# Altium footprint library Header_254.PcbLib: 78 footprints (part 8 of 9)
Each footprint in its own frame and in the unit in brackets; x right, y up, seen from the top. Pads: shape width x height; smd on the part's side, far side on the other; paste and mask are expansions set on the pad; w line width, h text height; cw(c..) or ccw(c..) is an arc to the next point about the centre after c.
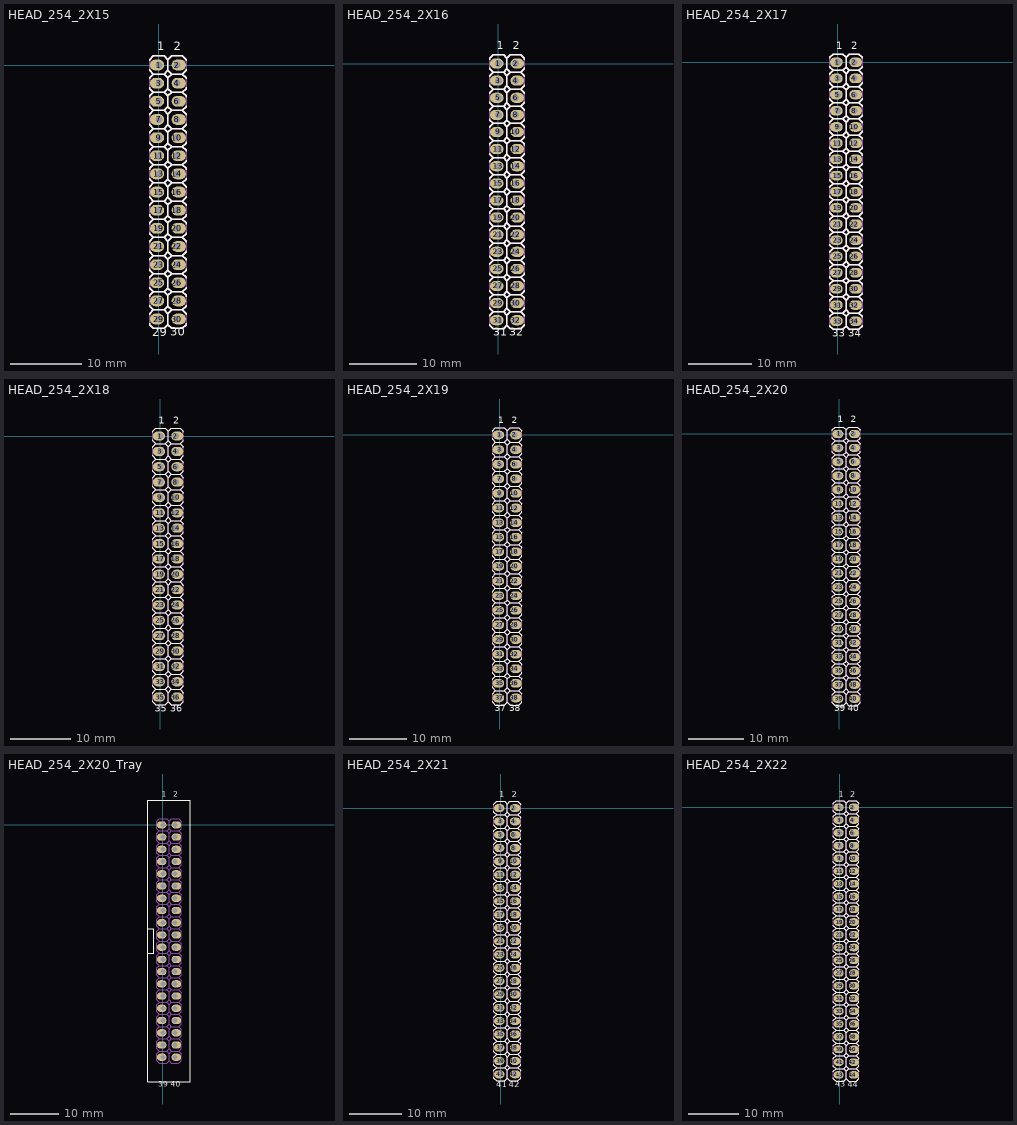
[diagram p7: the footprints below, top view; thin cyan lines are the x and y axes]

## HEAD_254_2X15 [mm] "Header 2.54mm 2x15"
pads (30):
  oval 2x1.5 hole 1 copper offset -0.25,0: 1(0,0) 3(0,-2.54) 5(0,-5.08) 7(0,-7.62) 9(0,-10.16) 11(0,-12.7) 13(0,-15.24) 15(0,-17.78) 17(0,-20.32) 19(0,-22.86) 21(0,-25.4) 23(0,-27.94) 25(0,-30.48) 27(0,-33.02) 29(0,-35.56)
  oval 2x1.5 hole 1 copper offset 0.25,0: 2(2.54,0) 4(2.54,-2.54) 6(2.54,-5.08) 8(2.54,-7.62) 10(2.54,-10.16) 12(2.54,-12.7) 14(2.54,-15.24) 16(2.54,-17.78) 18(2.54,-20.32) 20(2.54,-22.86) 22(2.54,-25.4) 24(2.54,-27.94) 26(2.54,-30.48) 28(2.54,-33.02) 30(2.54,-35.56)
Top Overlay:
  drawing of 227 lines, arcs and shapes, not listed
  text "30" at 1.626,-38.35 h2
  text "29" at -0.93,-38.351 h2
  text "2" at 2.115,1.644 h2
  text "1" at -0.236,1.644 h2
Bottom Overlay:
  text "30" at 3.454,-38.096 h2
  text "29" at 0.93,-38.097 h2
  text "2" at 2.965,0.882 h2
  text "1" at 0.236,0.882 h2
Top Assembly:
  drawing of 197 lines, arcs and shapes, not listed
3D body: height 2, standoff 0, extent -1.27,-36.83 1.27,-34.29
3D body: height 10, standoff -3, extent -0.35,-35.91 0.35,-35.21
3D body: height 2, standoff 0, extent 1.27,-36.83 3.81,-34.29
3D body: height 10, standoff -3, extent 2.19,-35.91 2.89,-35.21
3D body: height 2, standoff 0, extent -1.27,-34.29 1.27,-31.75
3D body: height 10, standoff -3, extent -0.35,-33.37 0.35,-32.67
3D body: height 2, standoff 0, extent 1.27,-34.29 3.81,-31.75
3D body: height 10, standoff -3, extent 2.19,-33.37 2.89,-32.67
3D body: height 2, standoff 0, extent -1.27,-31.75 1.27,-29.21
3D body: height 10, standoff -3, extent -0.35,-30.83 0.35,-30.13
3D body: height 2, standoff 0, extent 1.27,-31.75 3.81,-29.21
3D body: height 10, standoff -3, extent 2.19,-30.83 2.89,-30.13
3D body: height 2, standoff 0, extent -1.27,-29.21 1.27,-26.67
3D body: height 10, standoff -3, extent -0.35,-28.29 0.35,-27.59
3D body: height 2, standoff 0, extent 1.27,-29.21 3.81,-26.67
3D body: height 10, standoff -3, extent 2.19,-28.29 2.89,-27.59
3D body: height 2, standoff 0, extent -1.27,-26.67 1.27,-24.13
3D body: height 10, standoff -3, extent -0.35,-25.75 0.35,-25.05
3D body: height 2, standoff 0, extent 1.27,-26.67 3.81,-24.13
3D body: height 10, standoff -3, extent 2.19,-25.75 2.89,-25.05
3D body: height 2, standoff 0, extent -1.27,-24.13 1.27,-21.59
3D body: height 10, standoff -3, extent -0.35,-23.21 0.35,-22.51
3D body: height 2, standoff 0, extent 1.27,-24.13 3.81,-21.59
3D body: height 10, standoff -3, extent 2.19,-23.21 2.89,-22.51
3D body: height 2, standoff 0, extent -1.27,-21.59 1.27,-19.05
3D body: height 10, standoff -3, extent -0.35,-20.67 0.35,-19.97
3D body: height 2, standoff 0, extent 1.27,-21.59 3.81,-19.05
3D body: height 10, standoff -3, extent 2.19,-20.67 2.89,-19.97
3D body: height 2, standoff 0, extent -1.27,-19.05 1.27,-16.51
3D body: height 10, standoff -3, extent -0.35,-18.13 0.35,-17.43
3D body: height 2, standoff 0, extent 1.27,-19.05 3.81,-16.51
3D body: height 10, standoff -3, extent 2.19,-18.13 2.89,-17.43
3D body: height 2, standoff 0, extent -1.27,-16.51 1.27,-13.97
3D body: height 10, standoff -3, extent -0.35,-15.59 0.35,-14.89
3D body: height 2, standoff 0, extent 1.27,-16.51 3.81,-13.97
3D body: height 10, standoff -3, extent 2.19,-15.59 2.89,-14.89
3D body: height 2, standoff 0, extent -1.27,-13.97 1.27,-11.43
3D body: height 10, standoff -3, extent -0.35,-13.05 0.35,-12.35
3D body: height 2, standoff 0, extent 1.27,-13.97 3.81,-11.43
3D body: height 10, standoff -3, extent 2.19,-13.05 2.89,-12.35
3D body: height 2, standoff 0, extent -1.27,-11.43 1.27,-8.89
3D body: height 10, standoff -3, extent -0.35,-10.51 0.35,-9.81
3D body: height 2, standoff 0, extent 1.27,-11.43 3.81,-8.89
3D body: height 10, standoff -3, extent 2.19,-10.51 2.89,-9.81
3D body: height 2, standoff 0, extent -1.27,-1.27 1.27,1.27
3D body: height 10, standoff -3, extent -0.35,-0.35 0.35,0.35
3D body: height 2, standoff 0, extent 1.27,-1.27 3.81,1.27
3D body: height 10, standoff -3, extent 2.19,-0.35 2.89,0.35
3D body: height 2, standoff 0, extent -1.27,-3.81 1.27,-1.27
3D body: height 10, standoff -3, extent -0.35,-2.89 0.35,-2.19
3D body: height 2, standoff 0, extent 1.27,-3.81 3.81,-1.27
3D body: height 10, standoff -3, extent 2.19,-2.89 2.89,-2.19
3D body: height 2, standoff 0, extent -1.27,-6.35 1.27,-3.81
3D body: height 10, standoff -3, extent -0.35,-5.43 0.35,-4.73
3D body: height 2, standoff 0, extent 1.27,-6.35 3.81,-3.81
3D body: height 10, standoff -3, extent 2.19,-5.43 2.89,-4.73
3D body: height 2, standoff 0, extent -1.27,-8.89 1.27,-6.35
3D body: height 10, standoff -3, extent -0.35,-7.97 0.35,-7.27
3D body: height 2, standoff 0, extent 1.27,-8.89 3.81,-6.35
3D body: height 10, standoff -3, extent 2.19,-7.97 2.89,-7.27

## HEAD_254_2X16 [mm] "Header 2.54mm 2x16"
pads (32):
  oval 2x1.5 hole 1 copper offset -0.25,0: 1(0,0) 3(0,-2.54) 5(0,-5.08) 7(0,-7.62) 9(0,-10.16) 11(0,-12.7) 13(0,-15.24) 15(0,-17.78) 17(0,-20.32) 19(0,-22.86) 21(0,-25.4) 23(0,-27.94) 25(0,-30.48) 27(0,-33.02) 29(0,-35.56) 31(0,-38.1)
  oval 2x1.5 hole 1 copper offset 0.25,0: 2(2.54,0) 4(2.54,-2.54) 6(2.54,-5.08) 8(2.54,-7.62) 10(2.54,-10.16) 12(2.54,-12.7) 14(2.54,-15.24) 16(2.54,-17.78) 18(2.54,-20.32) 20(2.54,-22.86) 22(2.54,-25.4) 24(2.54,-27.94) 26(2.54,-30.48) 28(2.54,-33.02) 30(2.54,-35.56) 32(2.54,-38.1)
Top Overlay:
  drawing of 242 lines, arcs and shapes, not listed
  text "32" at 1.63,-40.89 h2
  text "31" at -0.793,-40.89 h2
  text "2" at 2.115,1.644 h2
  text "1" at -0.236,1.644 h2
Bottom Overlay:
  text "32" at 3.45,-40.636 h2
  text "31" at 0.793,-40.636 h2
  text "2" at 2.965,0.882 h2
  text "1" at 0.236,0.882 h2
Top Assembly:
  drawing of 210 lines, arcs and shapes, not listed
3D body: height 2, standoff 0, extent -1.27,-39.37 1.27,-36.83
3D body: height 10, standoff -3, extent -0.35,-38.45 0.35,-37.75
3D body: height 2, standoff 0, extent 1.27,-39.37 3.81,-36.83
3D body: height 10, standoff -3, extent 2.19,-38.45 2.89,-37.75
3D body: height 2, standoff 0, extent -1.27,-36.83 1.27,-34.29
3D body: height 10, standoff -3, extent -0.35,-35.91 0.35,-35.21
3D body: height 2, standoff 0, extent 1.27,-36.83 3.81,-34.29
3D body: height 10, standoff -3, extent 2.19,-35.91 2.89,-35.21
3D body: height 2, standoff 0, extent -1.27,-34.29 1.27,-31.75
3D body: height 10, standoff -3, extent -0.35,-33.37 0.35,-32.67
3D body: height 2, standoff 0, extent 1.27,-34.29 3.81,-31.75
3D body: height 10, standoff -3, extent 2.19,-33.37 2.89,-32.67
3D body: height 2, standoff 0, extent -1.27,-31.75 1.27,-29.21
3D body: height 10, standoff -3, extent -0.35,-30.83 0.35,-30.13
3D body: height 2, standoff 0, extent 1.27,-31.75 3.81,-29.21
3D body: height 10, standoff -3, extent 2.19,-30.83 2.89,-30.13
3D body: height 2, standoff 0, extent -1.27,-29.21 1.27,-26.67
3D body: height 10, standoff -3, extent -0.35,-28.29 0.35,-27.59
3D body: height 2, standoff 0, extent 1.27,-29.21 3.81,-26.67
3D body: height 10, standoff -3, extent 2.19,-28.29 2.89,-27.59
3D body: height 2, standoff 0, extent -1.27,-26.67 1.27,-24.13
3D body: height 10, standoff -3, extent -0.35,-25.75 0.35,-25.05
3D body: height 2, standoff 0, extent 1.27,-26.67 3.81,-24.13
3D body: height 10, standoff -3, extent 2.19,-25.75 2.89,-25.05
3D body: height 2, standoff 0, extent -1.27,-24.13 1.27,-21.59
3D body: height 10, standoff -3, extent -0.35,-23.21 0.35,-22.51
3D body: height 2, standoff 0, extent 1.27,-24.13 3.81,-21.59
3D body: height 10, standoff -3, extent 2.19,-23.21 2.89,-22.51
3D body: height 2, standoff 0, extent -1.27,-21.59 1.27,-19.05
3D body: height 10, standoff -3, extent -0.35,-20.67 0.35,-19.97
3D body: height 2, standoff 0, extent 1.27,-21.59 3.81,-19.05
3D body: height 10, standoff -3, extent 2.19,-20.67 2.89,-19.97
3D body: height 2, standoff 0, extent -1.27,-19.05 1.27,-16.51
3D body: height 10, standoff -3, extent -0.35,-18.13 0.35,-17.43
3D body: height 2, standoff 0, extent 1.27,-19.05 3.81,-16.51
3D body: height 10, standoff -3, extent 2.19,-18.13 2.89,-17.43
3D body: height 2, standoff 0, extent -1.27,-16.51 1.27,-13.97
3D body: height 10, standoff -3, extent -0.35,-15.59 0.35,-14.89
3D body: height 2, standoff 0, extent 1.27,-16.51 3.81,-13.97
3D body: height 10, standoff -3, extent 2.19,-15.59 2.89,-14.89
3D body: height 2, standoff 0, extent -1.27,-13.97 1.27,-11.43
3D body: height 10, standoff -3, extent -0.35,-13.05 0.35,-12.35
3D body: height 2, standoff 0, extent 1.27,-13.97 3.81,-11.43
3D body: height 10, standoff -3, extent 2.19,-13.05 2.89,-12.35
3D body: height 2, standoff 0, extent -1.27,-11.43 1.27,-8.89
3D body: height 10, standoff -3, extent -0.35,-10.51 0.35,-9.81
3D body: height 2, standoff 0, extent 1.27,-11.43 3.81,-8.89
3D body: height 10, standoff -3, extent 2.19,-10.51 2.89,-9.81
3D body: height 2, standoff 0, extent -1.27,-1.27 1.27,1.27
3D body: height 10, standoff -3, extent -0.35,-0.35 0.35,0.35
3D body: height 2, standoff 0, extent 1.27,-1.27 3.81,1.27
3D body: height 10, standoff -3, extent 2.19,-0.35 2.89,0.35
3D body: height 2, standoff 0, extent -1.27,-3.81 1.27,-1.27
3D body: height 10, standoff -3, extent -0.35,-2.89 0.35,-2.19
3D body: height 2, standoff 0, extent 1.27,-3.81 3.81,-1.27
3D body: height 10, standoff -3, extent 2.19,-2.89 2.89,-2.19
3D body: height 2, standoff 0, extent -1.27,-6.35 1.27,-3.81
3D body: height 10, standoff -3, extent -0.35,-5.43 0.35,-4.73
3D body: height 2, standoff 0, extent 1.27,-6.35 3.81,-3.81
3D body: height 10, standoff -3, extent 2.19,-5.43 2.89,-4.73
3D body: height 2, standoff 0, extent -1.27,-8.89 1.27,-6.35
3D body: height 10, standoff -3, extent -0.35,-7.97 0.35,-7.27
3D body: height 2, standoff 0, extent 1.27,-8.89 3.81,-6.35
3D body: height 10, standoff -3, extent 2.19,-7.97 2.89,-7.27

## HEAD_254_2X17 [mm] "Header 2.54mm 2x17"
pads (34):
  oval 2x1.5 hole 1 copper offset -0.25,0: 1(0,0) 3(0,-2.54) 5(0,-5.08) 7(0,-7.62) 9(0,-10.16) 11(0,-12.7) 13(0,-15.24) 15(0,-17.78) 17(0,-20.32) 19(0,-22.86) 21(0,-25.4) 23(0,-27.94) 25(0,-30.48) 27(0,-33.02) 29(0,-35.56) 31(0,-38.1) 33(0,-40.64)
  oval 2x1.5 hole 1 copper offset 0.25,0: 2(2.54,0) 4(2.54,-2.54) 6(2.54,-5.08) 8(2.54,-7.62) 10(2.54,-10.16) 12(2.54,-12.7) 14(2.54,-15.24) 16(2.54,-17.78) 18(2.54,-20.32) 20(2.54,-22.86) 22(2.54,-25.4) 24(2.54,-27.94) 26(2.54,-30.48) 28(2.54,-33.02) 30(2.54,-35.56) 32(2.54,-38.1) 34(2.54,-40.64)
Top Overlay:
  drawing of 257 lines, arcs and shapes, not listed
  text "34" at 1.626,-43.43 h2
  text "33" at -0.916,-43.43 h2
  text "2" at 2.115,1.644 h2
  text "1" at -0.236,1.644 h2
Bottom Overlay:
  text "34" at 3.454,-43.176 h2
  text "33" at 0.916,-43.176 h2
  text "2" at 2.965,0.882 h2
  text "1" at 0.236,0.882 h2
Top Assembly:
  drawing of 223 lines, arcs and shapes, not listed
3D body: height 2, standoff 0, extent -1.27,-41.91 1.27,-39.37
3D body: height 10, standoff -3, extent -0.35,-40.99 0.35,-40.29
3D body: height 2, standoff 0, extent 1.27,-41.91 3.81,-39.37
3D body: height 10, standoff -3, extent 2.19,-40.99 2.89,-40.29
3D body: height 2, standoff 0, extent -1.27,-39.37 1.27,-36.83
3D body: height 10, standoff -3, extent -0.35,-38.45 0.35,-37.75
3D body: height 2, standoff 0, extent 1.27,-39.37 3.81,-36.83
3D body: height 10, standoff -3, extent 2.19,-38.45 2.89,-37.75
3D body: height 2, standoff 0, extent -1.27,-36.83 1.27,-34.29
3D body: height 10, standoff -3, extent -0.35,-35.91 0.35,-35.21
3D body: height 2, standoff 0, extent 1.27,-36.83 3.81,-34.29
3D body: height 10, standoff -3, extent 2.19,-35.91 2.89,-35.21
3D body: height 2, standoff 0, extent -1.27,-34.29 1.27,-31.75
3D body: height 10, standoff -3, extent -0.35,-33.37 0.35,-32.67
3D body: height 2, standoff 0, extent 1.27,-34.29 3.81,-31.75
3D body: height 10, standoff -3, extent 2.19,-33.37 2.89,-32.67
3D body: height 2, standoff 0, extent -1.27,-31.75 1.27,-29.21
3D body: height 10, standoff -3, extent -0.35,-30.83 0.35,-30.13
3D body: height 2, standoff 0, extent 1.27,-31.75 3.81,-29.21
3D body: height 10, standoff -3, extent 2.19,-30.83 2.89,-30.13
3D body: height 2, standoff 0, extent -1.27,-29.21 1.27,-26.67
3D body: height 10, standoff -3, extent -0.35,-28.29 0.35,-27.59
3D body: height 2, standoff 0, extent 1.27,-29.21 3.81,-26.67
3D body: height 10, standoff -3, extent 2.19,-28.29 2.89,-27.59
3D body: height 2, standoff 0, extent -1.27,-26.67 1.27,-24.13
3D body: height 10, standoff -3, extent -0.35,-25.75 0.35,-25.05
3D body: height 2, standoff 0, extent 1.27,-26.67 3.81,-24.13
3D body: height 10, standoff -3, extent 2.19,-25.75 2.89,-25.05
3D body: height 2, standoff 0, extent -1.27,-24.13 1.27,-21.59
3D body: height 10, standoff -3, extent -0.35,-23.21 0.35,-22.51
3D body: height 2, standoff 0, extent 1.27,-24.13 3.81,-21.59
3D body: height 10, standoff -3, extent 2.19,-23.21 2.89,-22.51
3D body: height 2, standoff 0, extent -1.27,-21.59 1.27,-19.05
3D body: height 10, standoff -3, extent -0.35,-20.67 0.35,-19.97
3D body: height 2, standoff 0, extent 1.27,-21.59 3.81,-19.05
3D body: height 10, standoff -3, extent 2.19,-20.67 2.89,-19.97
3D body: height 2, standoff 0, extent -1.27,-19.05 1.27,-16.51
3D body: height 10, standoff -3, extent -0.35,-18.13 0.35,-17.43
3D body: height 2, standoff 0, extent 1.27,-19.05 3.81,-16.51
3D body: height 10, standoff -3, extent 2.19,-18.13 2.89,-17.43
3D body: height 2, standoff 0, extent -1.27,-16.51 1.27,-13.97
3D body: height 10, standoff -3, extent -0.35,-15.59 0.35,-14.89
3D body: height 2, standoff 0, extent 1.27,-16.51 3.81,-13.97
3D body: height 10, standoff -3, extent 2.19,-15.59 2.89,-14.89
3D body: height 2, standoff 0, extent -1.27,-13.97 1.27,-11.43
3D body: height 10, standoff -3, extent -0.35,-13.05 0.35,-12.35
3D body: height 2, standoff 0, extent 1.27,-13.97 3.81,-11.43
3D body: height 10, standoff -3, extent 2.19,-13.05 2.89,-12.35
3D body: height 2, standoff 0, extent -1.27,-11.43 1.27,-8.89
3D body: height 10, standoff -3, extent -0.35,-10.51 0.35,-9.81
3D body: height 2, standoff 0, extent 1.27,-11.43 3.81,-8.89
3D body: height 10, standoff -3, extent 2.19,-10.51 2.89,-9.81
3D body: height 2, standoff 0, extent -1.27,-1.27 1.27,1.27
3D body: height 10, standoff -3, extent -0.35,-0.35 0.35,0.35
3D body: height 2, standoff 0, extent 1.27,-1.27 3.81,1.27
3D body: height 10, standoff -3, extent 2.19,-0.35 2.89,0.35
3D body: height 2, standoff 0, extent -1.27,-3.81 1.27,-1.27
3D body: height 10, standoff -3, extent -0.35,-2.89 0.35,-2.19
3D body: height 2, standoff 0, extent 1.27,-3.81 3.81,-1.27
3D body: height 10, standoff -3, extent 2.19,-2.89 2.89,-2.19
3D body: height 2, standoff 0, extent -1.27,-6.35 1.27,-3.81
3D body: height 10, standoff -3, extent -0.35,-5.43 0.35,-4.73
3D body: height 2, standoff 0, extent 1.27,-6.35 3.81,-3.81
3D body: height 10, standoff -3, extent 2.19,-5.43 2.89,-4.73
3D body: height 2, standoff 0, extent -1.27,-8.89 1.27,-6.35
3D body: height 10, standoff -3, extent -0.35,-7.97 0.35,-7.27
3D body: height 2, standoff 0, extent 1.27,-8.89 3.81,-6.35
3D body: height 10, standoff -3, extent 2.19,-7.97 2.89,-7.27

## HEAD_254_2X18 [mm] "Header 2.54mm 2x18"
pads (36):
  oval 2x1.5 hole 1 copper offset -0.25,0: 1(0,0) 3(0,-2.54) 5(0,-5.08) 7(0,-7.62) 9(0,-10.16) 11(0,-12.7) 13(0,-15.24) 15(0,-17.78) 17(0,-20.32) 19(0,-22.86) 21(0,-25.4) 23(0,-27.94) 25(0,-30.48) 27(0,-33.02) 29(0,-35.56) 31(0,-38.1) 33(0,-40.64) 35(0,-43.18)
  oval 2x1.5 hole 1 copper offset 0.25,0: 2(2.54,0) 4(2.54,-2.54) 6(2.54,-5.08) 8(2.54,-7.62) 10(2.54,-10.16) 12(2.54,-12.7) 14(2.54,-15.24) 16(2.54,-17.78) 18(2.54,-20.32) 20(2.54,-22.86) 22(2.54,-25.4) 24(2.54,-27.94) 26(2.54,-30.48) 28(2.54,-33.02) 30(2.54,-35.56) 32(2.54,-38.1) 34(2.54,-40.64) 36(2.54,-43.18)
Top Overlay:
  drawing of 272 lines, arcs and shapes, not listed
  text "1" at -0.236,1.644 h2
  text "2" at 2.115,1.644 h2
  text "35" at -0.921,-45.97 h2
  text "36" at 1.624,-45.97 h2
Bottom Overlay:
  text "1" at 0.236,0.882 h2
  text "2" at 2.965,0.882 h2
  text "35" at 0.921,-45.716 h2
  text "36" at 3.456,-45.716 h2
Top Assembly:
  drawing of 236 lines, arcs and shapes, not listed
3D body: height 10, standoff -3, extent 2.19,-7.97 2.89,-7.27
3D body: height 2, standoff 0, extent 1.27,-8.89 3.81,-6.35
3D body: height 10, standoff -3, extent -0.35,-7.97 0.35,-7.27
3D body: height 2, standoff 0, extent -1.27,-8.89 1.27,-6.35
3D body: height 10, standoff -3, extent 2.19,-5.43 2.89,-4.73
3D body: height 2, standoff 0, extent 1.27,-6.35 3.81,-3.81
3D body: height 10, standoff -3, extent -0.35,-5.43 0.35,-4.73
3D body: height 2, standoff 0, extent -1.27,-6.35 1.27,-3.81
3D body: height 10, standoff -3, extent 2.19,-2.89 2.89,-2.19
3D body: height 2, standoff 0, extent 1.27,-3.81 3.81,-1.27
3D body: height 10, standoff -3, extent -0.35,-2.89 0.35,-2.19
3D body: height 2, standoff 0, extent -1.27,-3.81 1.27,-1.27
3D body: height 10, standoff -3, extent 2.19,-0.35 2.89,0.35
3D body: height 2, standoff 0, extent 1.27,-1.27 3.81,1.27
3D body: height 10, standoff -3, extent -0.35,-0.35 0.35,0.35
3D body: height 2, standoff 0, extent -1.27,-1.27 1.27,1.27
3D body: height 10, standoff -3, extent 2.19,-10.51 2.89,-9.81
3D body: height 2, standoff 0, extent 1.27,-11.43 3.81,-8.89
3D body: height 10, standoff -3, extent -0.35,-10.51 0.35,-9.81
3D body: height 2, standoff 0, extent -1.27,-11.43 1.27,-8.89
3D body: height 10, standoff -3, extent 2.19,-13.05 2.89,-12.35
3D body: height 2, standoff 0, extent 1.27,-13.97 3.81,-11.43
3D body: height 10, standoff -3, extent -0.35,-13.05 0.35,-12.35
3D body: height 2, standoff 0, extent -1.27,-13.97 1.27,-11.43
3D body: height 10, standoff -3, extent 2.19,-15.59 2.89,-14.89
3D body: height 2, standoff 0, extent 1.27,-16.51 3.81,-13.97
3D body: height 10, standoff -3, extent -0.35,-15.59 0.35,-14.89
3D body: height 2, standoff 0, extent -1.27,-16.51 1.27,-13.97
3D body: height 10, standoff -3, extent 2.19,-18.13 2.89,-17.43
3D body: height 2, standoff 0, extent 1.27,-19.05 3.81,-16.51
3D body: height 10, standoff -3, extent -0.35,-18.13 0.35,-17.43
3D body: height 2, standoff 0, extent -1.27,-19.05 1.27,-16.51
3D body: height 10, standoff -3, extent 2.19,-20.67 2.89,-19.97
3D body: height 2, standoff 0, extent 1.27,-21.59 3.81,-19.05
3D body: height 10, standoff -3, extent -0.35,-20.67 0.35,-19.97
3D body: height 2, standoff 0, extent -1.27,-21.59 1.27,-19.05
3D body: height 10, standoff -3, extent 2.19,-23.21 2.89,-22.51
3D body: height 2, standoff 0, extent 1.27,-24.13 3.81,-21.59
3D body: height 10, standoff -3, extent -0.35,-23.21 0.35,-22.51
3D body: height 2, standoff 0, extent -1.27,-24.13 1.27,-21.59
3D body: height 10, standoff -3, extent 2.19,-25.75 2.89,-25.05
3D body: height 2, standoff 0, extent 1.27,-26.67 3.81,-24.13
3D body: height 10, standoff -3, extent -0.35,-25.75 0.35,-25.05
3D body: height 2, standoff 0, extent -1.27,-26.67 1.27,-24.13
3D body: height 10, standoff -3, extent 2.19,-28.29 2.89,-27.59
3D body: height 2, standoff 0, extent 1.27,-29.21 3.81,-26.67
3D body: height 10, standoff -3, extent -0.35,-28.29 0.35,-27.59
3D body: height 2, standoff 0, extent -1.27,-29.21 1.27,-26.67
3D body: height 10, standoff -3, extent 2.19,-30.83 2.89,-30.13
3D body: height 2, standoff 0, extent 1.27,-31.75 3.81,-29.21
3D body: height 10, standoff -3, extent -0.35,-30.83 0.35,-30.13
3D body: height 2, standoff 0, extent -1.27,-31.75 1.27,-29.21
3D body: height 10, standoff -3, extent 2.19,-33.37 2.89,-32.67
3D body: height 2, standoff 0, extent 1.27,-34.29 3.81,-31.75
3D body: height 10, standoff -3, extent -0.35,-33.37 0.35,-32.67
3D body: height 2, standoff 0, extent -1.27,-34.29 1.27,-31.75
3D body: height 10, standoff -3, extent 2.19,-35.91 2.89,-35.21
3D body: height 2, standoff 0, extent 1.27,-36.83 3.81,-34.29
3D body: height 10, standoff -3, extent -0.35,-35.91 0.35,-35.21
3D body: height 2, standoff 0, extent -1.27,-36.83 1.27,-34.29
3D body: height 10, standoff -3, extent 2.19,-38.45 2.89,-37.75
3D body: height 2, standoff 0, extent 1.27,-39.37 3.81,-36.83
3D body: height 10, standoff -3, extent -0.35,-38.45 0.35,-37.75
3D body: height 2, standoff 0, extent -1.27,-39.37 1.27,-36.83
3D body: height 10, standoff -3, extent 2.19,-40.99 2.89,-40.29
3D body: height 2, standoff 0, extent 1.27,-41.91 3.81,-39.37
3D body: height 10, standoff -3, extent -0.35,-40.99 0.35,-40.29
3D body: height 2, standoff 0, extent -1.27,-41.91 1.27,-39.37
3D body: height 10, standoff -3, extent 2.19,-43.53 2.89,-42.83
3D body: height 2, standoff 0, extent 1.27,-44.45 3.81,-41.91
3D body: height 10, standoff -3, extent -0.35,-43.53 0.35,-42.83
3D body: height 2, standoff 0, extent -1.27,-44.45 1.27,-41.91

## HEAD_254_2X19 [mm] "Header 2.54mm 2x19"
pads (38):
  oval 2x1.5 hole 1 copper offset -0.25,0: 1(0,0) 3(0,-2.54) 5(0,-5.08) 7(0,-7.62) 9(0,-10.16) 11(0,-12.7) 13(0,-15.24) 15(0,-17.78) 17(0,-20.32) 19(0,-22.86) 21(0,-25.4) 23(0,-27.94) 25(0,-30.48) 27(0,-33.02) 29(0,-35.56) 31(0,-38.1) 33(0,-40.64) 35(0,-43.18) 37(0,-45.72)
  oval 2x1.5 hole 1 copper offset 0.25,0: 2(2.54,0) 4(2.54,-2.54) 6(2.54,-5.08) 8(2.54,-7.62) 10(2.54,-10.16) 12(2.54,-12.7) 14(2.54,-15.24) 16(2.54,-17.78) 18(2.54,-20.32) 20(2.54,-22.86) 22(2.54,-25.4) 24(2.54,-27.94) 26(2.54,-30.48) 28(2.54,-33.02) 30(2.54,-35.56) 32(2.54,-38.1) 34(2.54,-40.64) 36(2.54,-43.18) 38(2.54,-45.72)
Top Overlay:
  drawing of 287 lines, arcs and shapes, not listed
  text "1" at -0.236,1.644 h2
  text "2" at 2.115,1.644 h2
  text "37" at -0.916,-48.51 h2
  text "38" at 1.623,-48.51 h2
Bottom Overlay:
  text "1" at 0.236,0.882 h2
  text "2" at 2.965,0.882 h2
  text "37" at 0.916,-48.256 h2
  text "38" at 3.457,-48.256 h2
Top Assembly:
  drawing of 249 lines, arcs and shapes, not listed
3D body: height 10, standoff -3, extent 2.19,-7.97 2.89,-7.27
3D body: height 2, standoff 0, extent 1.27,-8.89 3.81,-6.35
3D body: height 10, standoff -3, extent -0.35,-7.97 0.35,-7.27
3D body: height 2, standoff 0, extent -1.27,-8.89 1.27,-6.35
3D body: height 10, standoff -3, extent 2.19,-5.43 2.89,-4.73
3D body: height 2, standoff 0, extent 1.27,-6.35 3.81,-3.81
3D body: height 10, standoff -3, extent -0.35,-5.43 0.35,-4.73
3D body: height 2, standoff 0, extent -1.27,-6.35 1.27,-3.81
3D body: height 10, standoff -3, extent 2.19,-2.89 2.89,-2.19
3D body: height 2, standoff 0, extent 1.27,-3.81 3.81,-1.27
3D body: height 10, standoff -3, extent -0.35,-2.89 0.35,-2.19
3D body: height 2, standoff 0, extent -1.27,-3.81 1.27,-1.27
3D body: height 10, standoff -3, extent 2.19,-0.35 2.89,0.35
3D body: height 2, standoff 0, extent 1.27,-1.27 3.81,1.27
3D body: height 10, standoff -3, extent -0.35,-0.35 0.35,0.35
3D body: height 2, standoff 0, extent -1.27,-1.27 1.27,1.27
3D body: height 10, standoff -3, extent 2.19,-10.51 2.89,-9.81
3D body: height 2, standoff 0, extent 1.27,-11.43 3.81,-8.89
3D body: height 10, standoff -3, extent -0.35,-10.51 0.35,-9.81
3D body: height 2, standoff 0, extent -1.27,-11.43 1.27,-8.89
3D body: height 10, standoff -3, extent 2.19,-13.05 2.89,-12.35
3D body: height 2, standoff 0, extent 1.27,-13.97 3.81,-11.43
3D body: height 10, standoff -3, extent -0.35,-13.05 0.35,-12.35
3D body: height 2, standoff 0, extent -1.27,-13.97 1.27,-11.43
3D body: height 10, standoff -3, extent 2.19,-15.59 2.89,-14.89
3D body: height 2, standoff 0, extent 1.27,-16.51 3.81,-13.97
3D body: height 10, standoff -3, extent -0.35,-15.59 0.35,-14.89
3D body: height 2, standoff 0, extent -1.27,-16.51 1.27,-13.97
3D body: height 10, standoff -3, extent 2.19,-18.13 2.89,-17.43
3D body: height 2, standoff 0, extent 1.27,-19.05 3.81,-16.51
3D body: height 10, standoff -3, extent -0.35,-18.13 0.35,-17.43
3D body: height 2, standoff 0, extent -1.27,-19.05 1.27,-16.51
3D body: height 10, standoff -3, extent 2.19,-20.67 2.89,-19.97
3D body: height 2, standoff 0, extent 1.27,-21.59 3.81,-19.05
3D body: height 10, standoff -3, extent -0.35,-20.67 0.35,-19.97
3D body: height 2, standoff 0, extent -1.27,-21.59 1.27,-19.05
3D body: height 10, standoff -3, extent 2.19,-23.21 2.89,-22.51
3D body: height 2, standoff 0, extent 1.27,-24.13 3.81,-21.59
3D body: height 10, standoff -3, extent -0.35,-23.21 0.35,-22.51
3D body: height 2, standoff 0, extent -1.27,-24.13 1.27,-21.59
3D body: height 10, standoff -3, extent 2.19,-25.75 2.89,-25.05
3D body: height 2, standoff 0, extent 1.27,-26.67 3.81,-24.13
3D body: height 10, standoff -3, extent -0.35,-25.75 0.35,-25.05
3D body: height 2, standoff 0, extent -1.27,-26.67 1.27,-24.13
3D body: height 10, standoff -3, extent 2.19,-28.29 2.89,-27.59
3D body: height 2, standoff 0, extent 1.27,-29.21 3.81,-26.67
3D body: height 10, standoff -3, extent -0.35,-28.29 0.35,-27.59
3D body: height 2, standoff 0, extent -1.27,-29.21 1.27,-26.67
3D body: height 10, standoff -3, extent 2.19,-30.83 2.89,-30.13
3D body: height 2, standoff 0, extent 1.27,-31.75 3.81,-29.21
3D body: height 10, standoff -3, extent -0.35,-30.83 0.35,-30.13
3D body: height 2, standoff 0, extent -1.27,-31.75 1.27,-29.21
3D body: height 10, standoff -3, extent 2.19,-33.37 2.89,-32.67
3D body: height 2, standoff 0, extent 1.27,-34.29 3.81,-31.75
3D body: height 10, standoff -3, extent -0.35,-33.37 0.35,-32.67
3D body: height 2, standoff 0, extent -1.27,-34.29 1.27,-31.75
3D body: height 10, standoff -3, extent 2.19,-35.91 2.89,-35.21
3D body: height 2, standoff 0, extent 1.27,-36.83 3.81,-34.29
3D body: height 10, standoff -3, extent -0.35,-35.91 0.35,-35.21
3D body: height 2, standoff 0, extent -1.27,-36.83 1.27,-34.29
3D body: height 10, standoff -3, extent 2.19,-38.45 2.89,-37.75
3D body: height 2, standoff 0, extent 1.27,-39.37 3.81,-36.83
3D body: height 10, standoff -3, extent -0.35,-38.45 0.35,-37.75
3D body: height 2, standoff 0, extent -1.27,-39.37 1.27,-36.83
3D body: height 10, standoff -3, extent 2.19,-40.99 2.89,-40.29
3D body: height 2, standoff 0, extent 1.27,-41.91 3.81,-39.37
3D body: height 10, standoff -3, extent -0.35,-40.99 0.35,-40.29
3D body: height 2, standoff 0, extent -1.27,-41.91 1.27,-39.37
3D body: height 10, standoff -3, extent 2.19,-43.53 2.89,-42.83
3D body: height 2, standoff 0, extent 1.27,-44.45 3.81,-41.91
3D body: height 10, standoff -3, extent -0.35,-43.53 0.35,-42.83
3D body: height 2, standoff 0, extent -1.27,-44.45 1.27,-41.91
3D body: height 10, standoff -3, extent 2.19,-46.07 2.89,-45.37
3D body: height 2, standoff 0, extent 1.27,-46.99 3.81,-44.45
3D body: height 10, standoff -3, extent -0.35,-46.07 0.35,-45.37
3D body: height 2, standoff 0, extent -1.27,-46.99 1.27,-44.45

## HEAD_254_2X20 [mm] "Header 2.54mm 2x25"
pads (40):
  oval 2x1.5 hole 1 copper offset -0.25,0: 1(0,0) 3(0,-2.54) 5(0,-5.08) 7(0,-7.62) 9(0,-10.16) 11(0,-12.7) 13(0,-15.24) 15(0,-17.78) 17(0,-20.32) 19(0,-22.86) 21(0,-25.4) 23(0,-27.94) 25(0,-30.48) 27(0,-33.02) 29(0,-35.56) 31(0,-38.1) 33(0,-40.64) 35(0,-43.18) 37(0,-45.72) 39(0,-48.26)
  oval 2x1.5 hole 1 copper offset 0.25,0: 2(2.54,0) 4(2.54,-2.54) 6(2.54,-5.08) 8(2.54,-7.62) 10(2.54,-10.16) 12(2.54,-12.7) 14(2.54,-15.24) 16(2.54,-17.78) 18(2.54,-20.32) 20(2.54,-22.86) 22(2.54,-25.4) 24(2.54,-27.94) 26(2.54,-30.48) 28(2.54,-33.02) 30(2.54,-35.56) 32(2.54,-38.1) 34(2.54,-40.64) 36(2.54,-43.18) 38(2.54,-45.72) 40(2.54,-48.26)
Top Overlay:
  drawing of 302 lines, arcs and shapes, not listed
  text "40" at 1.599,-51.051 h2
  text "39" at -0.917,-51.05 h2
  text "2" at 2.115,1.644 h2
  text "1" at -0.236,1.644 h2
Bottom Overlay:
  text "40" at 3.481,-50.797 h2
  text "39" at 0.917,-50.796 h2
  text "2" at 2.965,0.882 h2
  text "1" at 0.236,0.882 h2
Top Assembly:
  drawing of 262 lines, arcs and shapes, not listed
3D body: height 2, standoff 0, extent -1.27,-49.53 1.27,-46.99
3D body: height 10, standoff -3, extent -0.35,-48.61 0.35,-47.91
3D body: height 2, standoff 0, extent 1.27,-49.53 3.81,-46.99
3D body: height 10, standoff -3, extent 2.19,-48.61 2.89,-47.91
3D body: height 2, standoff 0, extent -1.27,-46.99 1.27,-44.45
3D body: height 10, standoff -3, extent -0.35,-46.07 0.35,-45.37
3D body: height 2, standoff 0, extent 1.27,-46.99 3.81,-44.45
3D body: height 10, standoff -3, extent 2.19,-46.07 2.89,-45.37
3D body: height 2, standoff 0, extent -1.27,-44.45 1.27,-41.91
3D body: height 10, standoff -3, extent -0.35,-43.53 0.35,-42.83
3D body: height 2, standoff 0, extent 1.27,-44.45 3.81,-41.91
3D body: height 10, standoff -3, extent 2.19,-43.53 2.89,-42.83
3D body: height 2, standoff 0, extent -1.27,-41.91 1.27,-39.37
3D body: height 10, standoff -3, extent -0.35,-40.99 0.35,-40.29
3D body: height 2, standoff 0, extent 1.27,-41.91 3.81,-39.37
3D body: height 10, standoff -3, extent 2.19,-40.99 2.89,-40.29
3D body: height 2, standoff 0, extent -1.27,-39.37 1.27,-36.83
3D body: height 10, standoff -3, extent -0.35,-38.45 0.35,-37.75
3D body: height 2, standoff 0, extent 1.27,-39.37 3.81,-36.83
3D body: height 10, standoff -3, extent 2.19,-38.45 2.89,-37.75
3D body: height 2, standoff 0, extent -1.27,-36.83 1.27,-34.29
3D body: height 10, standoff -3, extent -0.35,-35.91 0.35,-35.21
3D body: height 2, standoff 0, extent 1.27,-36.83 3.81,-34.29
3D body: height 10, standoff -3, extent 2.19,-35.91 2.89,-35.21
3D body: height 2, standoff 0, extent -1.27,-34.29 1.27,-31.75
3D body: height 10, standoff -3, extent -0.35,-33.37 0.35,-32.67
3D body: height 2, standoff 0, extent 1.27,-34.29 3.81,-31.75
3D body: height 10, standoff -3, extent 2.19,-33.37 2.89,-32.67
3D body: height 2, standoff 0, extent -1.27,-31.75 1.27,-29.21
3D body: height 10, standoff -3, extent -0.35,-30.83 0.35,-30.13
3D body: height 2, standoff 0, extent 1.27,-31.75 3.81,-29.21
3D body: height 10, standoff -3, extent 2.19,-30.83 2.89,-30.13
3D body: height 2, standoff 0, extent -1.27,-29.21 1.27,-26.67
3D body: height 10, standoff -3, extent -0.35,-28.29 0.35,-27.59
3D body: height 2, standoff 0, extent 1.27,-29.21 3.81,-26.67
3D body: height 10, standoff -3, extent 2.19,-28.29 2.89,-27.59
3D body: height 2, standoff 0, extent -1.27,-26.67 1.27,-24.13
3D body: height 10, standoff -3, extent -0.35,-25.75 0.35,-25.05
3D body: height 2, standoff 0, extent 1.27,-26.67 3.81,-24.13
3D body: height 10, standoff -3, extent 2.19,-25.75 2.89,-25.05
3D body: height 2, standoff 0, extent -1.27,-24.13 1.27,-21.59
3D body: height 10, standoff -3, extent -0.35,-23.21 0.35,-22.51
3D body: height 2, standoff 0, extent 1.27,-24.13 3.81,-21.59
3D body: height 10, standoff -3, extent 2.19,-23.21 2.89,-22.51
3D body: height 2, standoff 0, extent -1.27,-21.59 1.27,-19.05
3D body: height 10, standoff -3, extent -0.35,-20.67 0.35,-19.97
3D body: height 2, standoff 0, extent 1.27,-21.59 3.81,-19.05
3D body: height 10, standoff -3, extent 2.19,-20.67 2.89,-19.97
3D body: height 2, standoff 0, extent -1.27,-19.05 1.27,-16.51
3D body: height 10, standoff -3, extent -0.35,-18.13 0.35,-17.43
3D body: height 2, standoff 0, extent 1.27,-19.05 3.81,-16.51
3D body: height 10, standoff -3, extent 2.19,-18.13 2.89,-17.43
3D body: height 2, standoff 0, extent -1.27,-16.51 1.27,-13.97
3D body: height 10, standoff -3, extent -0.35,-15.59 0.35,-14.89
3D body: height 2, standoff 0, extent 1.27,-16.51 3.81,-13.97
3D body: height 10, standoff -3, extent 2.19,-15.59 2.89,-14.89
3D body: height 2, standoff 0, extent -1.27,-13.97 1.27,-11.43
3D body: height 10, standoff -3, extent -0.35,-13.05 0.35,-12.35
3D body: height 2, standoff 0, extent 1.27,-13.97 3.81,-11.43
3D body: height 10, standoff -3, extent 2.19,-13.05 2.89,-12.35
3D body: height 2, standoff 0, extent -1.27,-11.43 1.27,-8.89
3D body: height 10, standoff -3, extent -0.35,-10.51 0.35,-9.81
3D body: height 2, standoff 0, extent 1.27,-11.43 3.81,-8.89
3D body: height 10, standoff -3, extent 2.19,-10.51 2.89,-9.81
3D body: height 2, standoff 0, extent -1.27,-1.27 1.27,1.27
3D body: height 10, standoff -3, extent -0.35,-0.35 0.35,0.35
3D body: height 2, standoff 0, extent 1.27,-1.27 3.81,1.27
3D body: height 10, standoff -3, extent 2.19,-0.35 2.89,0.35
3D body: height 2, standoff 0, extent -1.27,-3.81 1.27,-1.27
3D body: height 10, standoff -3, extent -0.35,-2.89 0.35,-2.19
3D body: height 2, standoff 0, extent 1.27,-3.81 3.81,-1.27
3D body: height 10, standoff -3, extent 2.19,-2.89 2.89,-2.19
3D body: height 2, standoff 0, extent -1.27,-6.35 1.27,-3.81
3D body: height 10, standoff -3, extent -0.35,-5.43 0.35,-4.73
3D body: height 2, standoff 0, extent 1.27,-6.35 3.81,-3.81
3D body: height 10, standoff -3, extent 2.19,-5.43 2.89,-4.73
3D body: height 2, standoff 0, extent -1.27,-8.89 1.27,-6.35
3D body: height 10, standoff -3, extent -0.35,-7.97 0.35,-7.27
3D body: height 2, standoff 0, extent 1.27,-8.89 3.81,-6.35
3D body: height 10, standoff -3, extent 2.19,-7.97 2.89,-7.27

## HEAD_254_2X20_Tray [mm] "Header 2.54mm 2x20"
pads (40):
  oval 2x1.5 hole 1 copper offset -0.25,0: 1(0,0) 3(0,-2.54) 5(0,-5.08) 7(0,-7.62) 9(0,-10.16) 11(0,-12.7) 13(0,-15.24) 15(0,-17.78) 17(0,-20.32) 19(0,-22.86) 21(0,-25.4) 23(0,-27.94) 25(0,-30.48) 27(0,-33.02) 29(0,-35.56) 31(0,-38.1) 33(0,-40.64) 35(0,-43.18) 37(0,-45.72) 39(0,-48.26)
  oval 2x1.5 hole 1 copper offset 0.25,0: 2(2.54,0) 4(2.54,-2.54) 6(2.54,-5.08) 8(2.54,-7.62) 10(2.54,-10.16) 12(2.54,-12.7) 14(2.54,-15.24) 16(2.54,-17.78) 18(2.54,-20.32) 20(2.54,-22.86) 22(2.54,-25.4) 24(2.54,-27.94) 26(2.54,-30.48) 28(2.54,-33.02) 30(2.54,-35.56) 32(2.54,-38.1) 34(2.54,-40.64) 36(2.54,-43.18) 38(2.54,-45.72) 40(2.54,-48.26)
Top Overlay:
  lines w0.254: -3.175,-26.67 -1.905,-26.67 -1.905,-21.59 -3.175,-21.59 ; -3.175,-53.34 -3.175,5.08 5.715,5.08 5.715,-53.34 -3.175,-53.34
  text "40" at 1.599,-54.861 h2
  text "39" at -0.917,-54.86 h2
  text "2" at 2.115,5.454 h2
  text "1" at -0.236,5.454 h2
Bottom Overlay:
  text "40" at 3.481,-50.797 h2
  text "39" at 0.917,-50.796 h2
  text "2" at 2.965,0.882 h2
  text "1" at 0.236,0.882 h2
Top Assembly:
  drawing of 262 lines, arcs and shapes, not listed
3D body "Header_2.54_2x20_Tray.stp": height 9.35, standoff -3, extent -3.155,-53.36 5.695,5.1

## HEAD_254_2X21 [mm] "Header 2.54mm 2x21"
pads (42):
  oval 2x1.5 hole 1 copper offset -0.25,0: 1(0,0) 3(0,-2.54) 5(0,-5.08) 7(0,-7.62) 9(0,-10.16) 11(0,-12.7) 13(0,-15.24) 15(0,-17.78) 17(0,-20.32) 19(0,-22.86) 21(0,-25.4) 23(0,-27.94) 25(0,-30.48) 27(0,-33.02) 29(0,-35.56) 31(0,-38.1) 33(0,-40.64) 35(0,-43.18) 37(0,-45.72) 39(0,-48.26) 41(0,-50.8)
  oval 2x1.5 hole 1 copper offset 0.25,0: 2(2.54,0) 4(2.54,-2.54) 6(2.54,-5.08) 8(2.54,-7.62) 10(2.54,-10.16) 12(2.54,-12.7) 14(2.54,-15.24) 16(2.54,-17.78) 18(2.54,-20.32) 20(2.54,-22.86) 22(2.54,-25.4) 24(2.54,-27.94) 26(2.54,-30.48) 28(2.54,-33.02) 30(2.54,-35.56) 32(2.54,-38.1) 34(2.54,-40.64) 36(2.54,-43.18) 38(2.54,-45.72) 40(2.54,-48.26) 42(2.54,-50.8)
Top Overlay:
  drawing of 317 lines, arcs and shapes, not listed
  text "42" at 1.603,-53.601 h2
  text "41" at -0.82,-53.601 h2
  text "2" at 2.115,1.644 h2
  text "1" at -0.236,1.644 h2
Bottom Overlay:
  text "42" at 3.477,-53.347 h2
  text "41" at 0.82,-53.347 h2
  text "2" at 2.965,0.882 h2
  text "1" at 0.236,0.882 h2
Top Assembly:
  drawing of 275 lines, arcs and shapes, not listed
3D body: height 2, standoff 0, extent -1.27,-52.07 1.27,-49.53
3D body: height 10, standoff -3, extent -0.35,-51.15 0.35,-50.45
3D body: height 2, standoff 0, extent 1.27,-52.07 3.81,-49.53
3D body: height 10, standoff -3, extent 2.19,-51.15 2.89,-50.45
3D body: height 2, standoff 0, extent -1.27,-49.53 1.27,-46.99
3D body: height 10, standoff -3, extent -0.35,-48.61 0.35,-47.91
3D body: height 2, standoff 0, extent 1.27,-49.53 3.81,-46.99
3D body: height 10, standoff -3, extent 2.19,-48.61 2.89,-47.91
3D body: height 2, standoff 0, extent -1.27,-46.99 1.27,-44.45
3D body: height 10, standoff -3, extent -0.35,-46.07 0.35,-45.37
3D body: height 2, standoff 0, extent 1.27,-46.99 3.81,-44.45
3D body: height 10, standoff -3, extent 2.19,-46.07 2.89,-45.37
3D body: height 2, standoff 0, extent -1.27,-44.45 1.27,-41.91
3D body: height 10, standoff -3, extent -0.35,-43.53 0.35,-42.83
3D body: height 2, standoff 0, extent 1.27,-44.45 3.81,-41.91
3D body: height 10, standoff -3, extent 2.19,-43.53 2.89,-42.83
3D body: height 2, standoff 0, extent -1.27,-41.91 1.27,-39.37
3D body: height 10, standoff -3, extent -0.35,-40.99 0.35,-40.29
3D body: height 2, standoff 0, extent 1.27,-41.91 3.81,-39.37
3D body: height 10, standoff -3, extent 2.19,-40.99 2.89,-40.29
3D body: height 2, standoff 0, extent -1.27,-39.37 1.27,-36.83
3D body: height 10, standoff -3, extent -0.35,-38.45 0.35,-37.75
3D body: height 2, standoff 0, extent 1.27,-39.37 3.81,-36.83
3D body: height 10, standoff -3, extent 2.19,-38.45 2.89,-37.75
3D body: height 2, standoff 0, extent -1.27,-36.83 1.27,-34.29
3D body: height 10, standoff -3, extent -0.35,-35.91 0.35,-35.21
3D body: height 2, standoff 0, extent 1.27,-36.83 3.81,-34.29
3D body: height 10, standoff -3, extent 2.19,-35.91 2.89,-35.21
3D body: height 2, standoff 0, extent -1.27,-34.29 1.27,-31.75
3D body: height 10, standoff -3, extent -0.35,-33.37 0.35,-32.67
3D body: height 2, standoff 0, extent 1.27,-34.29 3.81,-31.75
3D body: height 10, standoff -3, extent 2.19,-33.37 2.89,-32.67
3D body: height 2, standoff 0, extent -1.27,-31.75 1.27,-29.21
3D body: height 10, standoff -3, extent -0.35,-30.83 0.35,-30.13
3D body: height 2, standoff 0, extent 1.27,-31.75 3.81,-29.21
3D body: height 10, standoff -3, extent 2.19,-30.83 2.89,-30.13
3D body: height 2, standoff 0, extent -1.27,-29.21 1.27,-26.67
3D body: height 10, standoff -3, extent -0.35,-28.29 0.35,-27.59
3D body: height 2, standoff 0, extent 1.27,-29.21 3.81,-26.67
3D body: height 10, standoff -3, extent 2.19,-28.29 2.89,-27.59
3D body: height 2, standoff 0, extent -1.27,-26.67 1.27,-24.13
3D body: height 10, standoff -3, extent -0.35,-25.75 0.35,-25.05
3D body: height 2, standoff 0, extent 1.27,-26.67 3.81,-24.13
3D body: height 10, standoff -3, extent 2.19,-25.75 2.89,-25.05
3D body: height 2, standoff 0, extent -1.27,-24.13 1.27,-21.59
3D body: height 10, standoff -3, extent -0.35,-23.21 0.35,-22.51
3D body: height 2, standoff 0, extent 1.27,-24.13 3.81,-21.59
3D body: height 10, standoff -3, extent 2.19,-23.21 2.89,-22.51
3D body: height 2, standoff 0, extent -1.27,-21.59 1.27,-19.05
3D body: height 10, standoff -3, extent -0.35,-20.67 0.35,-19.97
3D body: height 2, standoff 0, extent 1.27,-21.59 3.81,-19.05
3D body: height 10, standoff -3, extent 2.19,-20.67 2.89,-19.97
3D body: height 2, standoff 0, extent -1.27,-19.05 1.27,-16.51
3D body: height 10, standoff -3, extent -0.35,-18.13 0.35,-17.43
3D body: height 2, standoff 0, extent 1.27,-19.05 3.81,-16.51
3D body: height 10, standoff -3, extent 2.19,-18.13 2.89,-17.43
3D body: height 2, standoff 0, extent -1.27,-16.51 1.27,-13.97
3D body: height 10, standoff -3, extent -0.35,-15.59 0.35,-14.89
3D body: height 2, standoff 0, extent 1.27,-16.51 3.81,-13.97
3D body: height 10, standoff -3, extent 2.19,-15.59 2.89,-14.89
3D body: height 2, standoff 0, extent -1.27,-13.97 1.27,-11.43
3D body: height 10, standoff -3, extent -0.35,-13.05 0.35,-12.35
3D body: height 2, standoff 0, extent 1.27,-13.97 3.81,-11.43
3D body: height 10, standoff -3, extent 2.19,-13.05 2.89,-12.35
3D body: height 2, standoff 0, extent -1.27,-11.43 1.27,-8.89
3D body: height 10, standoff -3, extent -0.35,-10.51 0.35,-9.81
3D body: height 2, standoff 0, extent 1.27,-11.43 3.81,-8.89
3D body: height 10, standoff -3, extent 2.19,-10.51 2.89,-9.81
3D body: height 2, standoff 0, extent -1.27,-1.27 1.27,1.27
3D body: height 10, standoff -3, extent -0.35,-0.35 0.35,0.35
3D body: height 2, standoff 0, extent 1.27,-1.27 3.81,1.27
3D body: height 10, standoff -3, extent 2.19,-0.35 2.89,0.35
3D body: height 2, standoff 0, extent -1.27,-3.81 1.27,-1.27
3D body: height 10, standoff -3, extent -0.35,-2.89 0.35,-2.19
3D body: height 2, standoff 0, extent 1.27,-3.81 3.81,-1.27
3D body: height 10, standoff -3, extent 2.19,-2.89 2.89,-2.19
3D body: height 2, standoff 0, extent -1.27,-6.35 1.27,-3.81
3D body: height 10, standoff -3, extent -0.35,-5.43 0.35,-4.73
3D body: height 2, standoff 0, extent 1.27,-6.35 3.81,-3.81
3D body: height 10, standoff -3, extent 2.19,-5.43 2.89,-4.73
3D body: height 2, standoff 0, extent -1.27,-8.89 1.27,-6.35
3D body: height 10, standoff -3, extent -0.35,-7.97 0.35,-7.27
3D body: height 2, standoff 0, extent 1.27,-8.89 3.81,-6.35
3D body: height 10, standoff -3, extent 2.19,-7.97 2.89,-7.27

## HEAD_254_2X22 [mm] "Header 2.54mm 2x22"
pads (44):
  oval 2x1.5 hole 1 copper offset -0.25,0: 1(0,0) 3(0,-2.54) 5(0,-5.08) 7(0,-7.62) 9(0,-10.16) 11(0,-12.7) 13(0,-15.24) 15(0,-17.78) 17(0,-20.32) 19(0,-22.86) 21(0,-25.4) 23(0,-27.94) 25(0,-30.48) 27(0,-33.02) 29(0,-35.56) 31(0,-38.1) 33(0,-40.64) 35(0,-43.18) 37(0,-45.72) 39(0,-48.26) 41(0,-50.8) 43(0,-53.34)
  oval 2x1.5 hole 1 copper offset 0.25,0: 2(2.54,0) 4(2.54,-2.54) 6(2.54,-5.08) 8(2.54,-7.62) 10(2.54,-10.16) 12(2.54,-12.7) 14(2.54,-15.24) 16(2.54,-17.78) 18(2.54,-20.32) 20(2.54,-22.86) 22(2.54,-25.4) 24(2.54,-27.94) 26(2.54,-30.48) 28(2.54,-33.02) 30(2.54,-35.56) 32(2.54,-38.1) 34(2.54,-40.64) 36(2.54,-43.18) 38(2.54,-45.72) 40(2.54,-48.26) 42(2.54,-50.8) 44(2.54,-53.34)
Top Overlay:
  drawing of 332 lines, arcs and shapes, not listed
  text "1" at -0.236,1.644 h2
  text "2" at 2.115,1.644 h2
  text "43" at -0.943,-56.13 h2
  text "44" at 1.599,-56.139 h2
Bottom Overlay:
  text "1" at 0.236,0.882 h2
  text "2" at 2.965,0.882 h2
  text "43" at 0.943,-55.876 h2
  text "44" at 3.481,-55.885 h2
Top Assembly:
  drawing of 288 lines, arcs and shapes, not listed
3D body: height 10, standoff -3, extent 2.19,-7.97 2.89,-7.27
3D body: height 2, standoff 0, extent 1.27,-8.89 3.81,-6.35
3D body: height 10, standoff -3, extent -0.35,-7.97 0.35,-7.27
3D body: height 2, standoff 0, extent -1.27,-8.89 1.27,-6.35
3D body: height 10, standoff -3, extent 2.19,-5.43 2.89,-4.73
3D body: height 2, standoff 0, extent 1.27,-6.35 3.81,-3.81
3D body: height 10, standoff -3, extent -0.35,-5.43 0.35,-4.73
3D body: height 2, standoff 0, extent -1.27,-6.35 1.27,-3.81
3D body: height 10, standoff -3, extent 2.19,-2.89 2.89,-2.19
3D body: height 2, standoff 0, extent 1.27,-3.81 3.81,-1.27
3D body: height 10, standoff -3, extent -0.35,-2.89 0.35,-2.19
3D body: height 2, standoff 0, extent -1.27,-3.81 1.27,-1.27
3D body: height 10, standoff -3, extent 2.19,-0.35 2.89,0.35
3D body: height 2, standoff 0, extent 1.27,-1.27 3.81,1.27
3D body: height 10, standoff -3, extent -0.35,-0.35 0.35,0.35
3D body: height 2, standoff 0, extent -1.27,-1.27 1.27,1.27
3D body: height 10, standoff -3, extent 2.19,-10.51 2.89,-9.81
3D body: height 2, standoff 0, extent 1.27,-11.43 3.81,-8.89
3D body: height 10, standoff -3, extent -0.35,-10.51 0.35,-9.81
3D body: height 2, standoff 0, extent -1.27,-11.43 1.27,-8.89
3D body: height 10, standoff -3, extent 2.19,-13.05 2.89,-12.35
3D body: height 2, standoff 0, extent 1.27,-13.97 3.81,-11.43
3D body: height 10, standoff -3, extent -0.35,-13.05 0.35,-12.35
3D body: height 2, standoff 0, extent -1.27,-13.97 1.27,-11.43
3D body: height 10, standoff -3, extent 2.19,-15.59 2.89,-14.89
3D body: height 2, standoff 0, extent 1.27,-16.51 3.81,-13.97
3D body: height 10, standoff -3, extent -0.35,-15.59 0.35,-14.89
3D body: height 2, standoff 0, extent -1.27,-16.51 1.27,-13.97
3D body: height 10, standoff -3, extent 2.19,-18.13 2.89,-17.43
3D body: height 2, standoff 0, extent 1.27,-19.05 3.81,-16.51
3D body: height 10, standoff -3, extent -0.35,-18.13 0.35,-17.43
3D body: height 2, standoff 0, extent -1.27,-19.05 1.27,-16.51
3D body: height 10, standoff -3, extent 2.19,-20.67 2.89,-19.97
3D body: height 2, standoff 0, extent 1.27,-21.59 3.81,-19.05
3D body: height 10, standoff -3, extent -0.35,-20.67 0.35,-19.97
3D body: height 2, standoff 0, extent -1.27,-21.59 1.27,-19.05
3D body: height 10, standoff -3, extent 2.19,-23.21 2.89,-22.51
3D body: height 2, standoff 0, extent 1.27,-24.13 3.81,-21.59
3D body: height 10, standoff -3, extent -0.35,-23.21 0.35,-22.51
3D body: height 2, standoff 0, extent -1.27,-24.13 1.27,-21.59
3D body: height 10, standoff -3, extent 2.19,-25.75 2.89,-25.05
3D body: height 2, standoff 0, extent 1.27,-26.67 3.81,-24.13
3D body: height 10, standoff -3, extent -0.35,-25.75 0.35,-25.05
3D body: height 2, standoff 0, extent -1.27,-26.67 1.27,-24.13
3D body: height 10, standoff -3, extent 2.19,-28.29 2.89,-27.59
3D body: height 2, standoff 0, extent 1.27,-29.21 3.81,-26.67
3D body: height 10, standoff -3, extent -0.35,-28.29 0.35,-27.59
3D body: height 2, standoff 0, extent -1.27,-29.21 1.27,-26.67
3D body: height 10, standoff -3, extent 2.19,-30.83 2.89,-30.13
3D body: height 2, standoff 0, extent 1.27,-31.75 3.81,-29.21
3D body: height 10, standoff -3, extent -0.35,-30.83 0.35,-30.13
3D body: height 2, standoff 0, extent -1.27,-31.75 1.27,-29.21
3D body: height 10, standoff -3, extent 2.19,-33.37 2.89,-32.67
3D body: height 2, standoff 0, extent 1.27,-34.29 3.81,-31.75
3D body: height 10, standoff -3, extent -0.35,-33.37 0.35,-32.67
3D body: height 2, standoff 0, extent -1.27,-34.29 1.27,-31.75
3D body: height 10, standoff -3, extent 2.19,-35.91 2.89,-35.21
3D body: height 2, standoff 0, extent 1.27,-36.83 3.81,-34.29
3D body: height 10, standoff -3, extent -0.35,-35.91 0.35,-35.21
3D body: height 2, standoff 0, extent -1.27,-36.83 1.27,-34.29
3D body: height 10, standoff -3, extent 2.19,-38.45 2.89,-37.75
3D body: height 2, standoff 0, extent 1.27,-39.37 3.81,-36.83
3D body: height 10, standoff -3, extent -0.35,-38.45 0.35,-37.75
3D body: height 2, standoff 0, extent -1.27,-39.37 1.27,-36.83
3D body: height 10, standoff -3, extent 2.19,-40.99 2.89,-40.29
3D body: height 2, standoff 0, extent 1.27,-41.91 3.81,-39.37
3D body: height 10, standoff -3, extent -0.35,-40.99 0.35,-40.29
3D body: height 2, standoff 0, extent -1.27,-41.91 1.27,-39.37
3D body: height 10, standoff -3, extent 2.19,-43.53 2.89,-42.83
3D body: height 2, standoff 0, extent 1.27,-44.45 3.81,-41.91
3D body: height 10, standoff -3, extent -0.35,-43.53 0.35,-42.83
3D body: height 2, standoff 0, extent -1.27,-44.45 1.27,-41.91
3D body: height 10, standoff -3, extent 2.19,-46.07 2.89,-45.37
3D body: height 2, standoff 0, extent 1.27,-46.99 3.81,-44.45
3D body: height 10, standoff -3, extent -0.35,-46.07 0.35,-45.37
3D body: height 2, standoff 0, extent -1.27,-46.99 1.27,-44.45
3D body: height 10, standoff -3, extent 2.19,-48.61 2.89,-47.91
3D body: height 2, standoff 0, extent 1.27,-49.53 3.81,-46.99
3D body: height 10, standoff -3, extent -0.35,-48.61 0.35,-47.91
3D body: height 2, standoff 0, extent -1.27,-49.53 1.27,-46.99
3D body: height 10, standoff -3, extent 2.19,-51.15 2.89,-50.45
3D body: height 2, standoff 0, extent 1.27,-52.07 3.81,-49.53
3D body: height 10, standoff -3, extent -0.35,-51.15 0.35,-50.45
3D body: height 2, standoff 0, extent -1.27,-52.07 1.27,-49.53
3D body: height 10, standoff -3, extent 2.19,-53.69 2.89,-52.99
3D body: height 2, standoff 0, extent 1.27,-54.61 3.81,-52.07
3D body: height 10, standoff -3, extent -0.35,-53.69 0.35,-52.99
3D body: height 2, standoff 0, extent -1.27,-54.61 1.27,-52.07